# EAGLE library part 74*595 (library we-chip)
74*595 8-Bit Shift/Store Register (3-State) HC - VCC: 2-5.5V - Input: High 2.1V @ 3V / 3.5V @ 5V AHC - VCC: 2-5.5V - Input: 5V tolerant, High 2.1V @ 3V / 3.5V @ 5V HCT - VCC: 4.5-5.5V - Input: High 2V @ 5V AHCT - VCC: 4.5-5.5V - Input: High 2V @ 5V
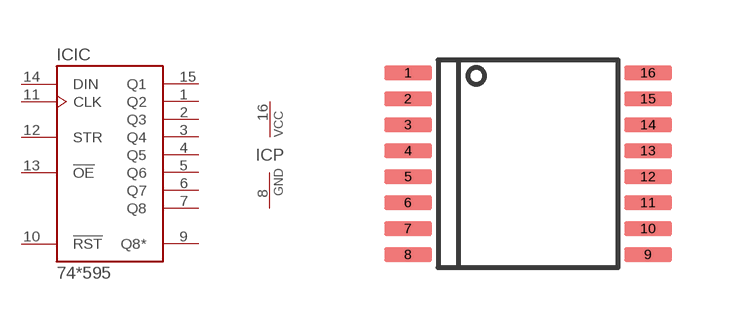
[diagram p28: symbol with the pads of TSSOP16; footprint TSSOP16]

Designator prefix IC; gates IC=74595 P=GATE_PWR

## 74HC595PW  [TSSOP16]
1  IC:Q2  hiz
2  IC:Q3  hiz
3  IC:Q4  hiz
4  IC:Q5  hiz
5  IC:Q6  hiz
6  IC:Q7  hiz
7  IC:Q8  hiz
8  P:GND  pwr
9  IC:Q8*  hiz
10  IC:!RST  in
11  IC:CLK  in
12  IC:STR  in
13  IC:!OE  in
14  IC:DIN  in
15  IC:Q1  hiz
16  P:VCC  pwr

## Footprint TSSOP16 (pad centres in mm)
smd 1.2 x 0.35: 1 -3,2.275; 2 -3,1.625; 3 -3,0.975; 4 -3,0.325; 5 -3,-0.325; 6 -3,-0.975; 7 -3,-1.625; 8 -3,-2.275; 9 3,-2.275; 10 3,-1.625; 11 3,-0.975; 12 3,-0.325; 13 3,0.325; 14 3,0.975; 15 3,1.625; 16 3,2.275